# Altium footprint library PA4333.472NLT.PcbLib: 1 footprints
Each footprint in its own frame and in the unit in brackets; x right, y up, seen from the top. Pads: shape width x height; smd on the part's side, far side on the other; paste and mask are expansions set on the pad; w line width, h text height; cw(c..) or ccw(c..) is an arc to the next point about the centre after c.
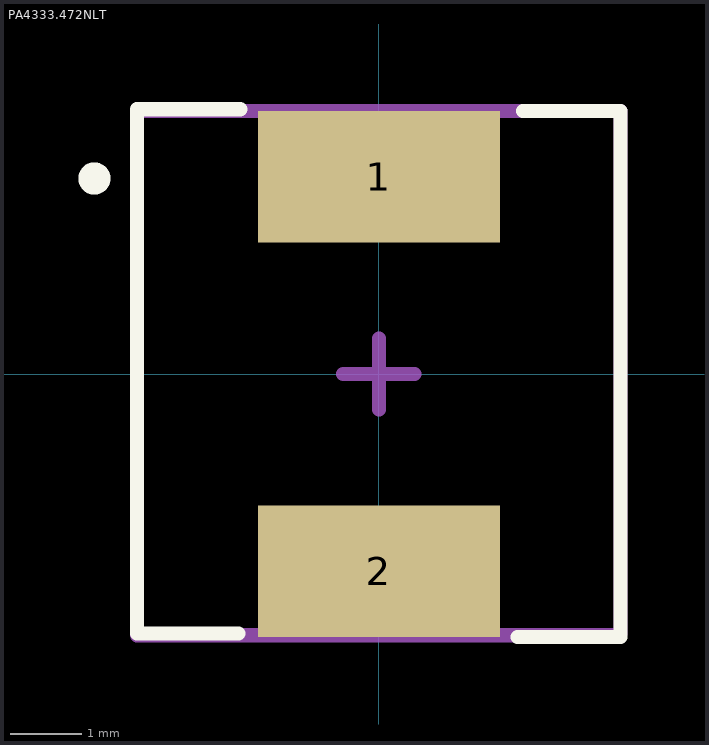
[diagram p0: the footprint, top view; thin cyan lines are the x and y axes]

## PA4333.472NLT [mm]
pads (2):
  rect 3.4x1.85 smd: 1(0,2.775) 2(0,-2.775)
Top Overlay:
  circle w0.254: c-4,2.75 r0.1
  lines w0.2: -1.975,-3.65 -3.4,-3.65 -3.4,3.725 -1.95,3.725 ; 1.95,-3.7 3.4,-3.7 3.4,3.7 2.025,3.7
Mechanical 13:
  lines w0.2: -3.4,-3.675 3.375,-3.675 3.4,-3.65 3.4,3.7 -3.4,3.7 -3.4,-3.675
Mechanical 15:
  lines w0.2: -0.5,0 0,0 ; 0,-0.5 0,0 ; 0,0.5 0,0 ; 0,0 0.5,0 0,0
3D body: height 3.2, standoff 0, extent -3.4,-3.7 3.4,3.7